# Altium schematic symbol library 2N3904TAR.SchLib: 6 symbols
Pins are listed as number, name and electrical type; pins without a type are passive.

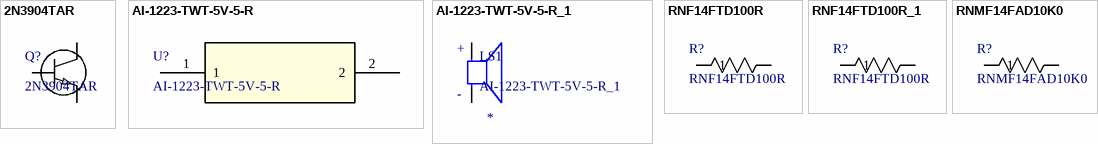
[diagram p0: symbols 2N3904TAR to RNMF14FAD10K0]

## 2N3904TAR
designator Q?
No Description Available; Mfr_Name: onsemi; Type: DEV; Copyright: Copyright (C) 2024 Ultra Librarian. All rights reserved.; Manufacturer_Part_Number: 2N3904TAR; RefDes: RefDes
footprint TO-92-3_135AR_ONS
pins: 1 E, 2 B, 3 C

## AI-1223-TWT-5V-5-R
designator U?
No Description Available; Mfr_Name: PUI Audio; Copyright: Copyright (C) 2024 Ultra Librarian. All rights reserved.; Manufacturer_Part_Number: AI-1223-TWT-5V-5-R; RefDes: RefDes; Type: DEV
footprint AI-1223-TWT-5V-5-R_PUI
pins: 1, 2

## AI-1223-TWT-5V-5-R_1
designator LS1
AUDIO INDICATOR 85 DB 5 VDC 2300 HZ; MF: PUI Audio,; Purchase-URL: https://pricing.snapeda.com/search/part/AI-1223-TWT-5V-5-R/?ref=eda; Check_prices: https://www.snapeda.com/parts/AI-1223-TWT-5V-5-R/PUI%20Audio,%20Inc./view-part/2746967/?ref=eda; MP: AI-1223-TWT-5V-5-R; SnapEDA_Link: https://www.snapeda.com/parts/AI-1223-TWT-5V-5-R/PUI%20Audio,%20Inc./view-part/2746967/?ref=snap; Availability: In Stock; Price: None; Package: 2225 PUI Audio; Value: *
footprint AI-1223-TWT-5V-5-R_PUI
pins: N, P
text: +; -

## RNF14FTD100R
designator R?
No Description Available; Mfr_Name: Stackpole International; Copyright: Copyright (C) 2024 Ultra Librarian. All rights reserved.; Manufacturer_Part_Number: RNF14FTD100R; RefDes: RefDes; Type: DEV
footprint STA_RNF14_STP
pins: 1, 2

## RNF14FTD100R_1
designator R?, comment RNF14FTD100R
No Description Available; Mfr_Name: Stackpole International; Copyright: Copyright (C) 2024 Ultra Librarian. All rights reserved.; Manufacturer_Part_Number: RNF14FTD100R; RefDes: RefDes; Type: DEV
footprint STA_RNF14_STP
pins: 1, 2

## RNMF14FAD10K0
designator R?
No Description Available; Mfr_Name: Stackpole International; Copyright: Copyright (C) 2024 Ultra Librarian. All rights reserved.; Manufacturer_Part_Number: RNMF14FAD10K0; RefDes: RefDes; Type: DEV
footprint RES_RNMF14_STP
pins: 1, 2